# Altium footprint library Connectors.PcbLib: 21 footprints (part 2 of 2)
Each footprint in its own frame and in the unit in brackets; x right, y up, seen from the top. Pads: shape width x height; smd on the part's side, far side on the other; paste and mask are expansions set on the pad; w line width, h text height; cw(c..) or ccw(c..) is an arc to the next point about the centre after c.
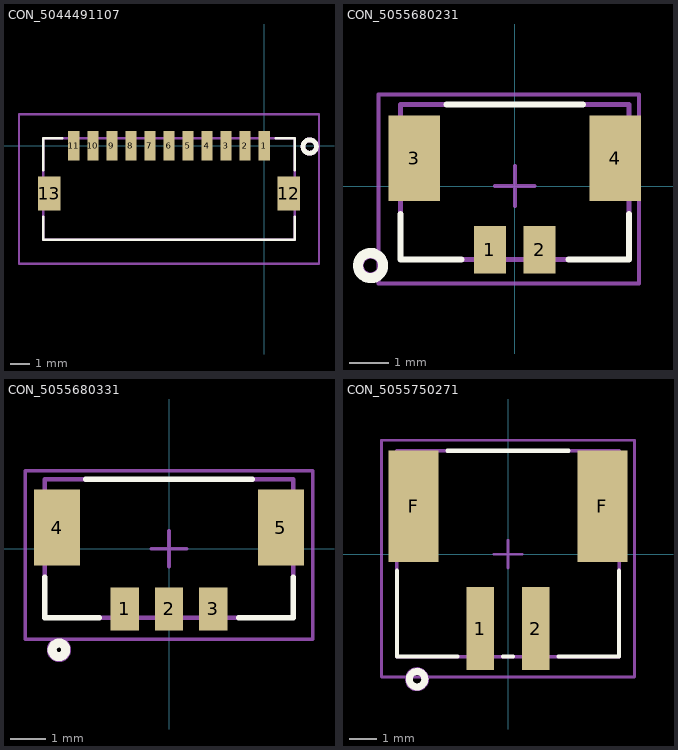
[diagram p1: the footprints below, top view; thin cyan lines are the x and y axes]

## CON_5044491107 [mm]
pads (13):
  rect 0.6x1.55 smd paste+0 mask+0.076: 1(0,0) 2(-1,0) 3(-2,0) 4(-3,0) 5(-4,0) 6(-5,0) 7(-6,0) 8(-7,0) 9(-8,0) 10(-9,0) 11(-10,0)
  rect 1.2x1.8 smd paste+0 mask+0.076: 12(1.3,-2.525) 13(-11.3,-2.525)
Top Overlay:
  circle w0.254: c2.4,-0.05 r0.354
  lines w0.127: -11.62,-3.745 -11.62,-4.95 1.62,-4.95 1.62,-3.745 ; -11.62,-1.305 -11.62,0.385 -10.62,0.385 ; 0.62,0.385 1.62,0.385 1.62,-1.305
Top Courtyard:
  lines w0.127: -12.89,-6.22 -12.89,1.655 2.89,1.655 2.89,-6.22 -12.89,-6.22
Top Assembly:
  circle w0.254: c2.4,-0.05 r0.354
  lines w0.127: -11.62,-4.95 1.62,-4.95 1.62,0.385 -11.62,0.385 -11.62,-4.95
3D body "5044491107.stp": height 5.56, standoff 0, extent -11.62,-4.935 1.62,0.4

## CON_5055680231 [mm]
pads (4):
  rect 0.8x1.2 smd paste+0 mask+0.076: 1(-0.625,-1.597) 2(0.625,-1.597)
  rect 1.3x2.15 smd paste+0 mask+0.076: 3(-2.525,0.698) 4(2.525,0.698)
Top Overlay:
  circle w0.254: c-3.625,-1.997 r0.316
  lines w0.152: -2.875,-0.698 -2.875,-1.847 -1.345,-1.847 ; -1.72,2.053 1.72,2.053 ; 1.345,-1.847 2.875,-1.847 2.875,-0.698
Top Courtyard:
  lines w0.1: -0.5,0 0.5,0 ; 0,-0.5 0,0.5 ; -3.425,-2.447 3.125,-2.447 3.125,2.303 -3.425,2.303 -3.425,-2.447
Top Assembly:
  circle w0.254: c-3.625,-1.997 r0.3
  lines w0.127: -2.875,-1.847 -2.875,2.053 2.875,2.053 2.875,-1.847 -2.875,-1.847
3D body "5055680231.stp": height 4.25, standoff 0.01, extent -2.875,-1.847 2.875,2.063

## CON_5055680331 [mm]
pads (5):
  rect 0.8x1.2 smd paste+0 mask+0.076: 1(-1.25,-1.697) 2(0,-1.697) 3(1.25,-1.697)
  rect 1.3x2.15 smd paste+0 mask+0.076: 4(-3.15,0.598) 5(3.15,0.598)
Top Overlay:
  circle w0.254: c-3.1,-2.847 r0.19
  lines w0.152: -3.5,-0.798 -3.5,-1.947 -1.97,-1.947 ; -2.345,1.953 2.345,1.953 ; 1.97,-1.947 3.5,-1.947 3.5,-0.798
Top Courtyard:
  lines w0.1: -0.5,0 0.5,0 ; 0,-0.5 0,0.5 ; -4.05,-2.547 4.05,-2.547 4.05,2.203 -4.05,2.203 -4.05,-2.547
Top Assembly:
  circle w0.254: c-3.1,-2.847 r0.215
  lines w0.127: -3.5,-1.947 3.5,-1.947 3.5,1.953 -3.5,1.953 -3.5,-1.947
3D body "5055680331.stp": height 4.25, standoff 0.01, extent -3.5,-1.947 3.5,1.953

## CON_5055750271 [mm]
pads (4):
  rect 1x3 smd paste+0 mask+0.076: 1(-1,-2.675) 2(1,-2.675)
  rect 1.8x4 smd paste+0 mask+0.076: F(-3.4,1.725) F(3.4,1.725)
Top Overlay:
  circle w0.254: c-3.275,-4.5 r0.28
  lines w0.152: -4,-0.595 -4,-3.685 -1.82,-3.685 ; -2.18,3.725 2.18,3.725 ; -0.18,-3.685 0.18,-3.685 ; 1.82,-3.685 4,-3.685 4,-0.595
Top Courtyard:
  lines w0.1: -0.5,0 0.5,0 ; 0,-0.5 0,0.5 ; -4.55,-4.425 4.55,-4.425 4.55,4.1 -4.55,4.1 -4.55,-4.425
Top Assembly:
  circle w0.254: c-3.275,-4.5 r0.305
  lines w0.127: -4,-3.685 -4,3.725 4,3.725 4,-3.685 -4,-3.685
3D body "5055750271.stp": height 8.62, standoff 0.02, extent -4,-3.75 4,3.85

## PCBComponent_1 [mm]